# Altium footprint library 二极管.PcbLib: 21 footprints (part 2 of 2)
Each footprint in its own frame and in the unit in brackets; x right, y up, seen from the top. Pads: shape width x height; smd on the part's side, far side on the other; paste and mask are expansions set on the pad; w line width, h text height; cw(c..) or ccw(c..) is an arc to the next point about the centre after c.
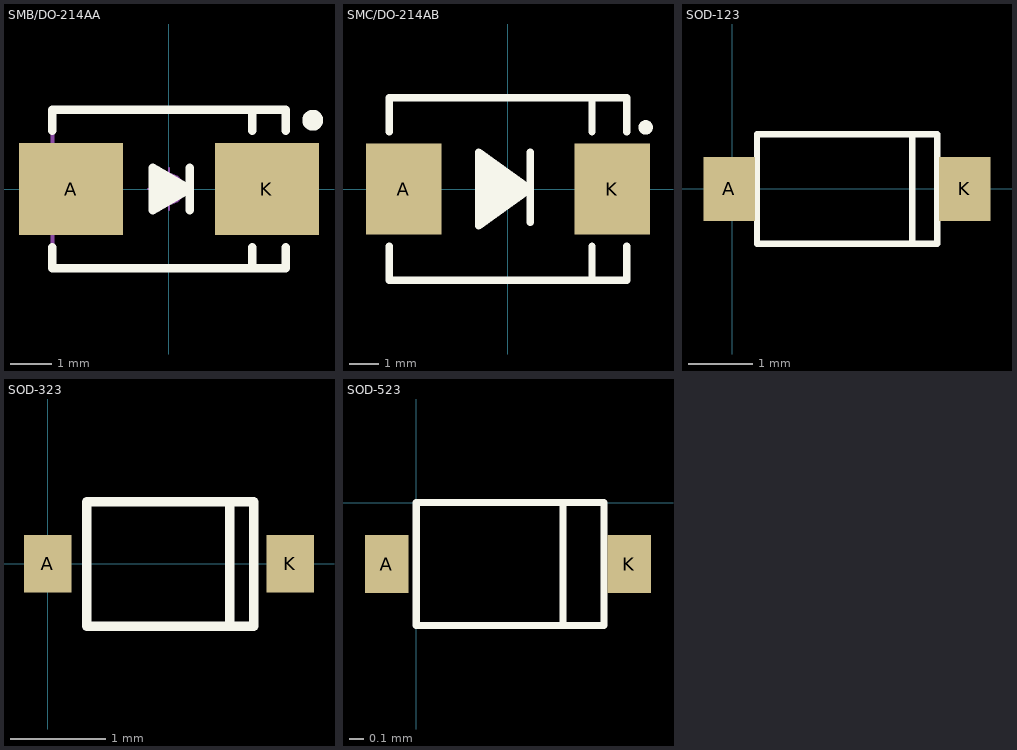
[diagram p1: the footprints below, top view; thin cyan lines are the x and y axes]

## SMB/DO-214AA [mm] "塑封二极管"
pads (2):
  rect 2.5x2.2 smd: A(-2.35,0) K(2.35,0)
Top Overlay:
  circle w0.25: c3.45,1.65 r0.125
  lines w0.2: -2.8,-1.4 -2.8,-1.9 2.8,-1.9 2.8,-1.4 ; -2.8,1.4 -2.8,1.9 2.8,1.9 2.8,1.4 ; 2,-1.9 2,-1.4 ; 2,1.4 2,1.9
  lines w0.203: 0.5,-0.508 0.5,0.508 ; -0.389,-0.508 0.5,0 -0.389,0.508 -0.389,-0.508
  lines w0.254: -0.254,0 0.279,0 ; 0.279,0 -0.229,-0.305 -0.229,0.279 0.279,0
Mechanical 13:
  lines w0.1: 2.8,-1.9 -2.8,-1.9 -2.8,1.9 2.8,1.9
Mechanical 15:
  circle w0.05: c0,0 r0.35
  lines w0.05: -0.5,0 0.5,0 ; 0,-0.5 0,0.5
3D body "SMB.STEP": height 2.35, standoff 0.04, extent -2.629,-1.8 2.675,1.8

## SMC/DO-214AB [mm] "塑封二极管"
pads (2):
  rect 2.6x3.15 smd: A(-3.6,0) K(3.6,0)
Top Overlay:
  circle w0.25: c4.75,2.125 r0.125
  lines w0.254: -4.1,-1.975 -4.1,-3.15 4.1,-3.15 4.1,-1.975 ; -4.1,1.975 -4.1,3.15 4.1,3.15 4.1,1.975 ; -0.889,0.991 0.5,0 -0.889,-0.965 -0.914,0.762 0.229,0 -0.711,-0.66 -0.762,0.483 0,-0.051 -0.584,-0.33 -0.635,0.152 -0.229,-0.051 -0.737,-0.127 ; 0.762,-1.143 0.762,1.27 ; 2.9,-3.15 2.9,-1.975 ; 2.9,1.975 2.9,3.15 ; -1.016,-1.27 -1.016,1.27 0.762,0 -1.016,-1.27
Mechanical 13:
  lines w0.1: -4.065,-3.11 4.065,-3.11 ; -4.065,3.11 4.065,3.11
Mechanical 15:
  circle w0.05: c0,0 r0.35
  lines w0.05: -0.5,0 0.5,0 ; 0,-0.5 0,0.5
3D body "SMC.STEP": height 2.45, standoff 0.03, extent -3.953,-2.9 3.953,2.9

## SOD-123 [mm] "塑封二极管"
pads (2):
  rect 0.8x1 smd: A(-0.051,0) K(3.607,0)
Top Overlay:
  lines w0.1: 2.794,-0.85 2.794,0.85 ; 0.381,-0.85 0.381,0.85 3.181,0.85 3.181,-0.85 0.381,-0.85
3D body "SOD-123_DiodesInc.STEP": height 1.43, standoff -0.02, extent -0.122,-0.889 3.728,0.811

## SOD-323 [mm] "塑封二极管"
pads (2):
  rect 0.5x0.6 smd: A(0,0) K(2.54,0)
Top Overlay:
  lines w0.1: 1.905,-0.651 1.905,0.649 ; 0.409,-0.651 2.157,-0.651 2.159,-0.649 2.159,0.649 0.409,0.649 0.409,-0.651
3D body "SOD323.STEP": height 0.9, standoff -0.09, extent 0.02,-0.635 2.52,0.615

## SOD-523 [mm] "塑封二极管"
pads (2):
  rect 0.3x0.4 smd: A(-0.203,-0.425) K(1.473,-0.425)
Top Overlay:
  lines w0.05: 1.016,-0.85 1.016,0 ; 0,-0.85 0,0 1.3,0 1.3,-0.85 0,-0.85
3D body "SOD-523.STEP": height 0.65, standoff 0, extent -0.165,-0.832 1.435,-0.032